# Altium footprint library BLM31KN_SN.PcbLib: 1 footprints
Each footprint in its own frame and in the unit in brackets; x right, y up, seen from the top. Pads: shape width x height; smd on the part's side, far side on the other; paste and mask are expansions set on the pad; w line width, h text height; cw(c..) or ccw(c..) is an arc to the next point about the centre after c.
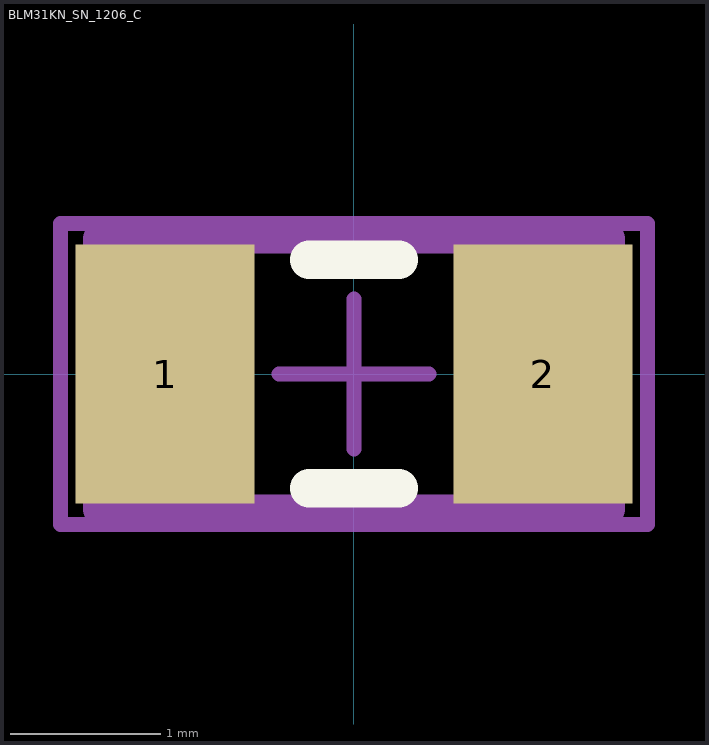
[diagram p0: the footprint, top view; thin cyan lines are the x and y axes]

## BLM31KN_SN_1206_C [mm] "Chip Inductor, 2-Leads, Body 3.20x1.60mm, IPC High Density"
height 1.8
pads (2):
  rect 1.19x1.72 smd: 1(-1.255,0) 2(1.255,0)
Top Overlay:
  lines w0.254: -0.3,-0.76 0.3,-0.76 ; -0.3,0.76 0.3,0.76
Top Assembly:
  lines w0.2: -1.7,-0.9 -1.7,0.9 1.7,0.9 1.7,-0.9 -1.7,-0.9
Top Designator:
  text ".Designator" at -1.27,-0.368 h0.8
Top Courtyard (Mech15):
  lines w0.1: -0.5,0 0.5,0 ; 0,-0.5 0,0.5 ; -1.95,-1 -1.95,1 1.95,1 1.95,-1 -1.95,-1
3D body: height 1.8, standoff 0, extent -1,-0.9 1,0.9
3D body: height 1.8, standoff 0, extent -1.7,-0.9 -1,0.9
3D body: height 1.8, standoff 0, extent 1,-0.9 1.7,0.9